# Altium footprint library ParCar.PcbLib: 3 footprints
Each footprint in its own frame and in the unit in brackets; x right, y up, seen from the top. Pads: shape width x height; smd on the part's side, far side on the other; paste and mask are expansions set on the pad; w line width, h text height; cw(c..) or ccw(c..) is an arc to the next point about the centre after c.
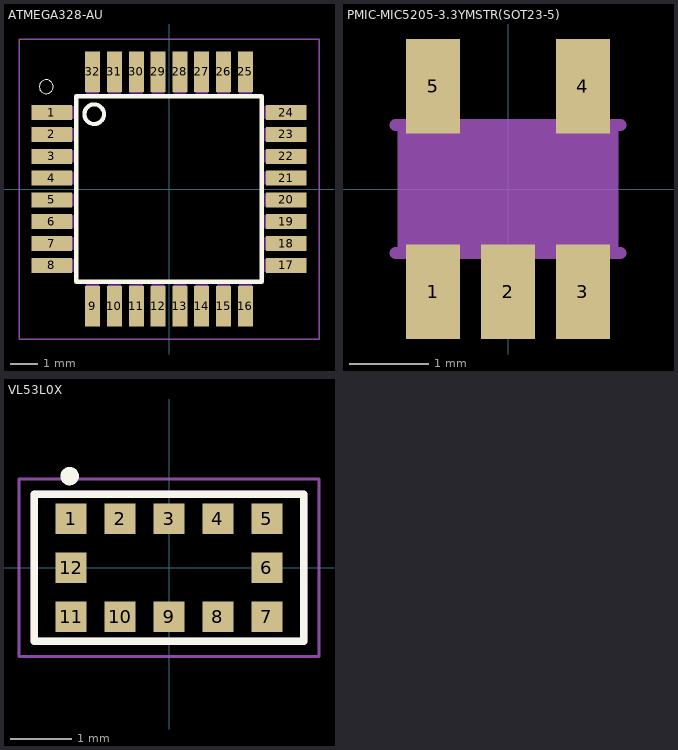
[diagram p0: the footprints below, top view; thin cyan lines are the x and y axes]

## ATMEGA328-AU [mm]
pads (32):
  rect 1.5x0.55 smd: 1(-4.3,2.8) 2(-4.3,2) 3(-4.3,1.2) 4(-4.3,0.4) 5(-4.3,-0.4) 6(-4.3,-1.2) 7(-4.3,-2) 8(-4.3,-2.8) 17(4.3,-2.8) 18(4.3,-2) 19(4.3,-1.2) 20(4.3,-0.4) 21(4.3,0.4) 22(4.3,1.2) 23(4.3,2) 24(4.3,2.8)
  rect 0.55x1.5 smd: 9(-2.8,-4.3) 10(-2,-4.3) 11(-1.2,-4.3) 12(-0.4,-4.3) 13(0.4,-4.3) 14(1.2,-4.3) 15(2,-4.3) 16(2.8,-4.3) 25(2.8,4.3) 26(2,4.3) 27(1.2,4.3) 28(0.4,4.3) 29(-0.4,4.3) 30(-1.2,4.3) 31(-2,4.3) 32(-2.8,4.3)
Top Overlay:
  circle w0.152: c-2.743,2.743 r0.359
  circle w0: c-4.5,3.75 r0.254
  lines w0.152: -3.4,-3.4 3.4,-3.4 3.4,3.4 -3.4,3.4 -3.4,-3.4
Mechanical 13:
  region: -3.506,2.577 -4.507,2.577 -4.507,3.029 -3.506,3.029
  region: -3.506,1.775 -4.505,1.775 -4.505,2.229 -3.506,2.229
  region: -3.506,0.975 -4.511,0.975 -4.511,1.429 -3.506,1.429
  region: -3.506,0.172 -4.5,0.172 -4.5,0.629 -3.506,0.629
  region: -3.506,-0.629 -4.503,-0.629 -4.503,-0.171 -3.506,-0.171
  region: -3.506,-1.432 -4.507,-1.432 -4.507,-0.971 -3.506,-0.971
  region: -3.506,-2.232 -4.503,-2.232 -4.503,-1.771 -3.506,-1.771
  region: -3.506,-3.036 -4.507,-3.036 -4.507,-2.571 -3.506,-2.571
  region: -2.571,-4.506 -3.035,-4.506 -3.035,-3.506 -2.571,-3.506
  region: -1.771,-4.5 -2.23,-4.5 -2.23,-3.506 -1.771,-3.506
  region: -0.971,-4.507 -1.432,-4.507 -1.432,-3.506 -0.971,-3.506
  region: -0.171,-4.509 -0.63,-4.509 -0.63,-3.506 -0.171,-3.506
  region: 0.629,-4.505 0.172,-4.505 0.172,-3.506 0.629,-3.506
  region: 1.429,-4.505 0.973,-4.505 0.973,-3.506 1.429,-3.506
  region: 2.229,-4.506 1.775,-4.506 1.775,-3.506 2.229,-3.506
  region: 3.029,-4.505 2.576,-4.505 2.576,-3.506 3.029,-3.506
  region: 4.497,-3.031 3.509,-3.031 3.509,-2.571 4.497,-2.571
  region: 4.497,-2.232 3.512,-2.232 3.512,-1.771 4.497,-1.771
  region: 4.497,-1.432 3.513,-1.432 3.513,-0.971 4.497,-0.971
  region: 4.497,-0.629 3.511,-0.629 3.511,-0.171 4.497,-0.171
  region: 4.497,0.172 3.51,0.172 3.51,0.629 4.497,0.629
  region: 4.497,0.973 3.513,0.973 3.513,1.429 4.497,1.429
  region: 4.497,1.778 3.519,1.778 3.519,2.229 4.497,2.229
  region: 4.497,2.578 3.514,2.578 3.514,3.029 4.497,3.029
  region: 3.029,3.514 2.577,3.514 2.577,4.497 3.029,4.497
  region: 2.229,3.513 1.775,3.513 1.775,4.497 2.229,4.497
  region: 1.429,3.513 0.973,3.513 0.973,4.497 1.429,4.497
  region: 0.629,3.513 0.172,3.513 0.172,4.497 0.629,4.497
  region: -0.171,3.517 -0.631,3.517 -0.631,4.497 -0.171,4.497
  region: -0.971,3.513 -1.432,3.513 -1.432,4.497 -0.971,4.497
  region: -1.771,3.512 -2.232,3.512 -2.232,4.497 -1.771,4.497
  region: -2.571,3.511 -3.033,3.511 -3.033,4.497 -2.571,4.497
Mechanical 15:
  lines w0.05: -5.5,-5.5 5.5,-5.5 5.5,5.5 -5.5,5.5 -5.5,-5.5
3D body "step_temp.STEP": height 1.19, standoff -0.01, extent -4.5,-4.5 4.5,4.5

## PMIC-MIC5205-3.3YMSTR(SOT23-5) [mm]
pads (5):
  rect 0.69x1.2 smd: 1(-0.95,-1.3) 2(0,-1.3) 3(0.95,-1.3) 4(0.95,1.3) 5(-0.95,1.3)
Mechanical 13:
  region: -0.7,-1.5 -1.2,-1.5 -1.2,-0.85 -0.7,-0.85
  region: 0.25,-1.502 -0.25,-1.502 -0.25,-0.85 0.25,-0.85
  region: 1.2,-1.502 0.701,-1.502 0.701,-0.85 1.2,-0.85
  region: 1.2,0.851 0.701,0.851 0.701,1.5 1.2,1.5
  region: -0.7,0.85 -1.201,0.85 -1.201,1.5 -0.7,1.5
  lines w0.152: -1.422,-0.81 1.422,-0.81 ; -1.422,0.81 1.422,0.81
Mechanical 15:
  region: 1.397,-0.762 -1.397,-0.762 -1.397,0.762 1.397,0.762
3D body "MIC5205-3.3YM5-TR.STEP": height 1.45, standoff 0, extent -1.45,-1.223 1.45,1.477

## VL53L0X [mm]
pads (12):
  rect 0.5x0.5 smd: 1(-1.6,0.8) 2(-0.8,0.8) 3(0,0.8) 4(0.8,0.8) 5(1.6,0.8) 6(1.6,0) 7(1.6,-0.8) 8(0.8,-0.8) 9(0,-0.8) 10(-0.8,-0.8) 11(-1.6,-0.8) 12(-1.6,0)
Top Overlay:
  circle w0.15: c-1.623,1.496 r0.075
  lines w0.127: -2.2,-1.2 -2.2,1.2 2.2,1.2 2.2,-1.2 -2.2,-1.2
Mechanical 13:
  lines w0.127: -2.2,-1.2 -2.2,1.2 2.2,1.2 2.2,-1.2 -2.2,-1.2
Mechanical 15:
  lines w0.05: -2.45,-1.45 -2.45,1.45 2.45,1.45 2.45,-1.45 -2.45,-1.45
3D body "VL53L0X--3DModel-STEP-56544.STEP": height 1.06, standoff 0.01, extent -2.2,-1.2 2.2,1.2